# Altium footprint library CMWX1ZZABZ-078.PcbLib: 1 footprints
Each footprint in its own frame and in the unit in brackets; x right, y up, seen from the top. Pads: shape width x height; smd on the part's side, far side on the other; paste and mask are expansions set on the pad; w line width, h text height; cw(c..) or ccw(c..) is an arc to the next point about the centre after c.
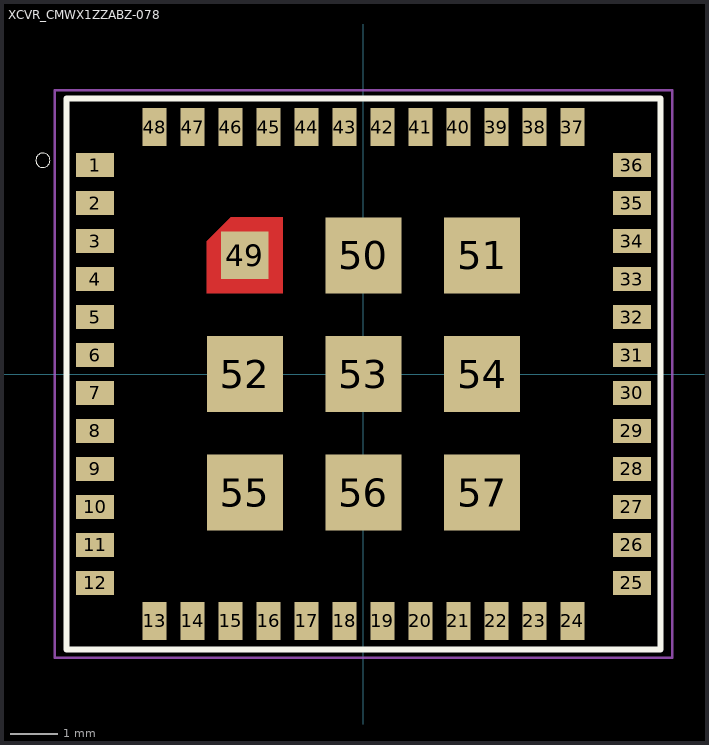
[diagram p0: the footprint, top view; thin cyan lines are the x and y axes]

## XCVR_CMWX1ZZABZ-078 [mm]
pads (57):
  rect 0.8x0.5 smd: 1(-5.65,4.4) 2(-5.65,3.6) 3(-5.65,2.8) 4(-5.65,2) 5(-5.65,1.2) 6(-5.65,0.4) 7(-5.65,-0.4) 8(-5.65,-1.2) 9(-5.65,-2) 10(-5.65,-2.8) 11(-5.65,-3.6) 12(-5.65,-4.4) 25(5.65,-4.4) 26(5.65,-3.6) 27(5.65,-2.8) 28(5.65,-2) 29(5.65,-1.2) 30(5.65,-0.4) 31(5.65,0.4) 32(5.65,1.2) 33(5.65,2) 34(5.65,2.8) 35(5.65,3.6) 36(5.65,4.4)
  rect 0.5x0.8 smd: 13(-4.4,-5.2) 14(-3.6,-5.2) 15(-2.8,-5.2) 16(-2,-5.2) 17(-1.2,-5.2) 18(-0.4,-5.2) 19(0.4,-5.2) 20(1.2,-5.2) 21(2,-5.2) 22(2.8,-5.2) 23(3.6,-5.2) 24(4.4,-5.2) 37(4.4,5.2) 38(3.6,5.2) 39(2.8,5.2) 40(2,5.2) 41(1.2,5.2) 42(0.4,5.2) 43(-0.4,5.2) 44(-1.2,5.2) 45(-2,5.2) 46(-2.8,5.2) 47(-3.6,5.2) 48(-4.4,5.2)
  rect 1x1 smd: 49(-2.5,2.5)
  rect 1.6x1.6 smd: 50(0,2.5) 51(2.5,2.5) 52(-2.5,0) 53(0,0) 54(2.5,0) 55(-2.5,-2.5) 56(0,-2.5) 57(2.5,-2.5)
Top Layer:
  region: -1.7,1.7 -1.7,3.3 -2.8,3.3 -3.3,2.8 -3.3,1.7
  region: -1.225,1.65 -0.975,1.65 0.975,1.65 1.225,1.65
Top Overlay:
  circle w0: c-6.75,4.5 r0.15
  lines w0.127: -6.25,-5.8 6.25,-5.8 6.25,5.8 -6.25,5.8 -6.25,-5.8
Top Paste:
  region: -1.7,1.7 -1.7,3.3 -2.8,3.3 -3.3,2.8 -3.3,1.7
Top Solder:
  region: -3.4,1.6 -1.6,1.6 -1.6,3.4 -2.9,3.4 -3.4,2.9
  region: -1.225,1.65 -0.975,1.65 0.975,1.65 1.225,1.65
Mechanical 1:
  lines w0.05: -6.5,-5.975 -6.5,5.975 6.5,5.975 6.5,-5.975 -6.5,-5.975